# EAGLE library part SN74AC74D (library SN74AC74D)
Dual Positive-Edge-Triggered D-Type Flip-Flops With Clear and Preset Source: Datasheet <http://www.ti.com/lit/gpn/SN74AC74>
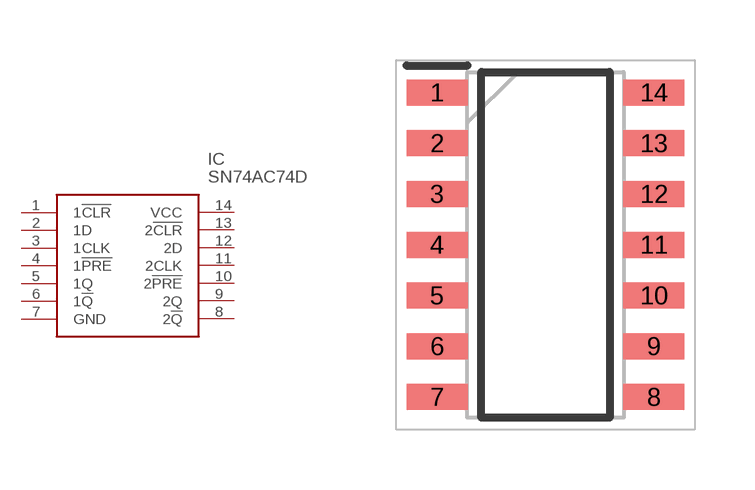
[diagram p0: symbol with the pads of SOIC127P600X175-14N; footprint SOIC127P600X175-14N]

Designator prefix IC

## SN74AC74D (Arrow_Part_Number: SN74AC74D; Arrow_Price-Stock: https://www.arrow.com/en/products/sn74ac74d/texas-instruments?region=nac; Description: Dual Positive-Edge-Triggered D-Type Flip-Flops With Clear and Preset; Height: 1.75mm; Manufacturer_Name: Texas Instruments; Manufacturer_Part_Number: SN74AC74D; Mouser_Part_Number: 595-SN74AC74D; Mouser_Price-Stock: https://www.mouser.co.uk/ProductDetail/Texas-Instruments/SN74AC74D?qs=NLW4NjXEBS62VvV8UtQwag%3D%3D)  [SOIC127P600X175-14N]
1  1!CLR
2  1D
3  1CLK
4  1!PRE
5  1Q
6  1!Q
7  GND
8  2!Q
9  2Q
10  2!PRE
11  2CLK
12  2D
13  2!CLR
14  VCC

## Footprint SOIC127P600X175-14N (pad centres in mm)
D (R-PDSO-G14)
smd 1.525 x 0.65: 1 -2.712,3.81; 2 -2.712,2.54; 3 -2.712,1.27; 4 -2.712,0; 5 -2.712,-1.27; 6 -2.712,-2.54; 7 -2.712,-3.81; 8 2.712,-3.81; 9 2.712,-2.54; 10 2.712,-1.27; 11 2.712,0; 12 2.712,1.27; 13 2.712,2.54; 14 2.712,3.81